# Altium footprint library Mylibr.PcbLib: 102 footprints (part 3 of 7)
Each footprint in its own frame and in the unit in brackets; x right, y up, seen from the top. Pads: shape width x height; smd on the part's side, far side on the other; paste and mask are expansions set on the pad; w line width, h text height; cw(c..) or ccw(c..) is an arc to the next point about the centre after c.
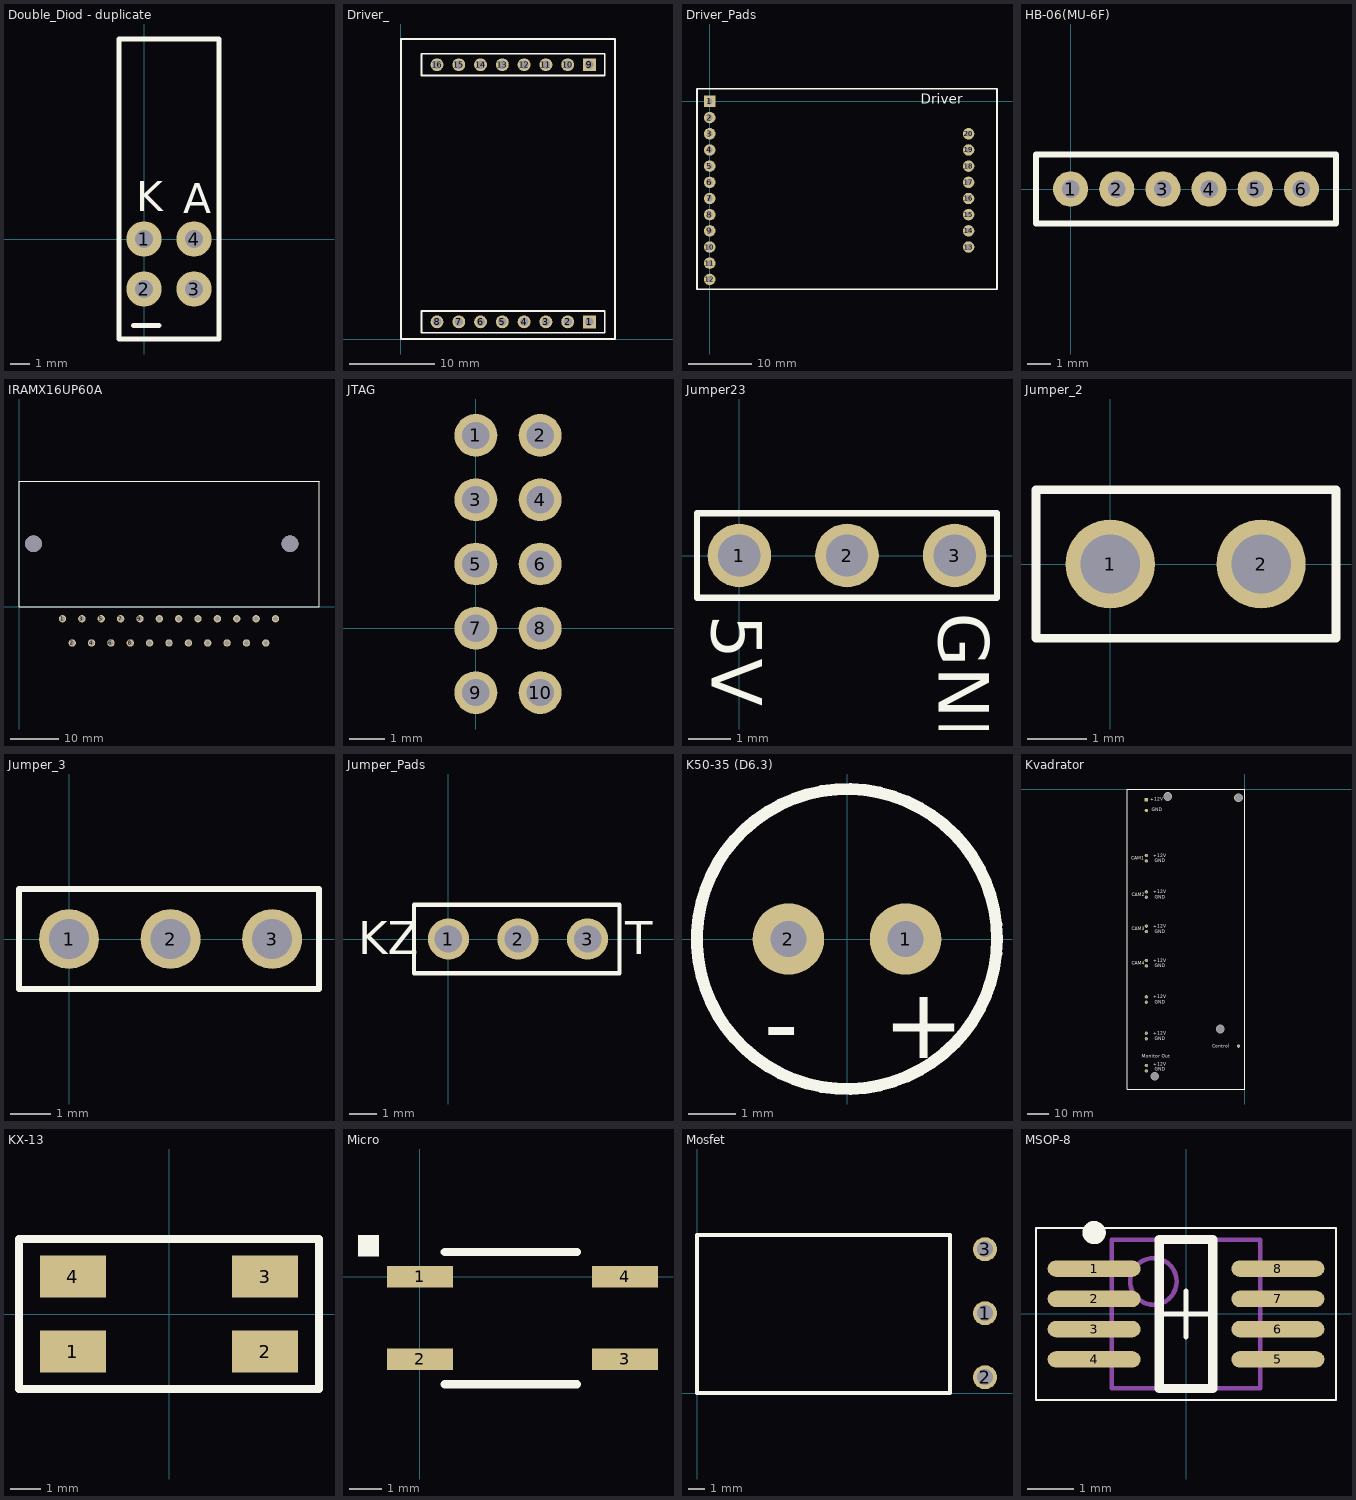
[diagram p2: the footprints below, top view; thin cyan lines are the x and y axes]

## Double_Diod - duplicate [mm]
pads (4):
  round 1.8 hole 0.9: 1(0,0) 2(0,-2.54) 3(2.54,-2.54) 4(2.54,0)
Top Overlay:
  lines w0.254: -0.54,-4.4 0.76,-4.4 ; -1.27,-5.08 -1.27,10.16 0,10.16 3.81,10.16 3.81,-5.08 -1.27,-5.08
  text "K" at -0.4,1.4 h1.52
  text "A" at 2,1.3 h1.52

## Driver_ [mm]
pads (16):
  rect 1.5x1.5 hole 1: 1(22,2) 9(22,32)
  round 1.5 hole 1: 2(19.46,2) 3(16.92,2) 4(14.38,2) 5(11.84,2) 6(9.3,2) 7(6.76,2) 8(4.22,2) 10(19.46,32) 11(16.92,32) 12(14.38,32) 13(11.84,32) 14(9.3,32) 15(6.76,32) 16(4.22,32)
Top Overlay:
  lines w0.2: 23.778,0.73 23.778,3.27 ; 23.778,30.73 23.778,33.27 ; 23.78,0.73 2.4,0.73 2.4,3.27 23.78,3.27 ; 23.78,30.73 2.4,30.73 2.4,33.27 23.78,33.27
  lines w0.254: 0,0 25,0 25,35 0,35 0,0

## Driver_Pads [mm]
pads (20):
  rect 1.8x1.8 hole 0.9: 1(0,0)
  round 1.8 hole 0.9: 2(0,-2.54) 3(0,-5.08) 4(0,-7.62) 5(0,-10.16) 6(0,-12.7) 7(0,-15.24) 8(0,-17.78) 9(0,-20.32) 10(0,-22.86) 11(0,-25.4) 12(0,-27.94) 13(40.64,-22.86) 14(40.64,-20.32) 15(40.64,-17.78) 16(40.64,-15.24) 17(40.64,-12.7) 18(40.64,-10.16) 19(40.64,-7.62) 20(40.64,-5.08)
Top Overlay:
  lines w0.254: 45,2 0,2 -2,2 -2,-29.5 45.1,-29.5 45.1,2
  text "Driver" at 33.1,-0.4 h1.52

## HB-06(MU-6F) [mil]
pads (6):
  round 60 hole 30: 1(0,0) 2(78.74,0) 3(157.48,0) 4(236.22,0) 5(314.96,0) 6(393.7,0)
Top Overlay:
  lines w10: -59.06,-59.06 -59.06,0 -59.06,59.06 452.76,59.06 452.76,-59.06 -59.06,-59.06

## IRAMX16UP60A [mm]
pads (23):
  round 1.524 hole 1: 1(9,-2.5) 2(11,-7.5) 3(13,-2.5) 4(15,-7.5) 5(17,-2.5) 6(19,-7.5) 7(21,-2.5) 8(23,-7.5) 9(25,-2.5) 10(27,-7.5) 11(29,-2.5) 12(31,-7.5) 13(33,-2.5) 14(35,-7.5) 15(37,-2.5) 16(39,-7.5) 17(41,-2.5) 18(43,-7.5) 19(45,-2.5) 20(47,-7.5) 21(49,-2.5) 22(51,-7.5) 23(53,-2.5)
via 3,13 diameter 3.5 hole 3.5
via 56,13 diameter 3.5 hole 3.5
Top Overlay:
  lines w0.254: 61.9,25.9 62,25.8 62,0 0,0 0,25.9 62,25.9

## JTAG [mm]
pads (10):
  round 1.2 hole 0.762: 1(0,5.4) 2(1.8,5.4) 3(0,3.6) 4(1.8,3.6) 5(0,1.8) 6(1.8,1.8) 7(0,0) 8(1.8,0) 9(0,-1.8) 10(1.8,-1.8)

## Jumper23 [mm] "Jumper for SYNC"
pads (3):
  round 1.5 hole 1: 1(0,0) 2(2.54,0) 3(5.08,0)
Top Overlay:
  lines w0.15: 1.83,-1 6.08,-1 ; 1.83,1 6.08,1 ; 3.25,-1 -1,-1 -1,1 3.25,1 ; 6.08,-1 6.08,1 ; 6.08,-1 6.08,1
  text "5V" at -0.65,-1.4 h1.2
  text "GND" at 4.7,-1.35 h1.2

## Jumper_2 [mm] "перемычка для плат"
pads (2):
  round 1.5 hole 1: 1(0,0) 2(2.54,0)
Top Overlay:
  lines w0.15: 3.775,-1.25 -1.25,-1.25 -1.25,1.25 3.775,1.25 ; 3.8,-1.25 3.8,1.25

## Jumper_3 [mm] "перемычка для плат"
pads (3):
  round 1.5 hole 1: 1(0,0) 2(2.54,0) 3(5.08,0)
Top Overlay:
  lines w0.15: -1.25,-1.25 -1.25,1.25 6.25,1.25 6.25,-1.25 -1.25,-1.25

## Jumper_Pads [mm] "перемычка для плат"
pads (3):
  round 1.5 hole 1: 1(0,0) 2(2.54,0) 3(5.08,0)
Top Overlay:
  lines w0.15: -1.25,-1.25 -1.25,1.25 6.25,1.25 6.25,-1.25 -1.25,-1.25
  text "KZ" at -3.3,-0.55 h1.2
  text "T" at 6.45,-0.55 h1.2

## K50-35 (D6.3) [mil]
height 433.07
pads (2):
  round 60 hole 30: 1(49.21,0) 2(-49.21,0)
Top Overlay:
  circle w10: c0,0 r125.98
  text "+" at 30,-100 h60
  text "-" at -70,-100 h60

## Kvadrator [mm]
pads (17):
  round 1.524 hole 1 square: 0(-46,-31) 2(-46,-48) 4(-46,-64) 6(-46,-80) 8(-46,-97) 10(-46,-114) 12(-46,-129)
  round 1.524 hole 1: 1(-46,-33.54) 3(-46,-50.54) 5(-46,-66.54) 7(-46,-82.54) 9(-46,-99.54) 11(-46,-116.54) 13(-46,-131.54)
  rect 1.524x1.524 smd: 14(-46,-5)
  round 1.524 smd: 15(-46,-10)
  round 1.524 hole 0.762: 16(-3,-120)
via -11.5,-112 diameter 4 hole 3.5
via -42,-134 diameter 4 hole 3.5
via -3,-4 diameter 4 hole 3.5
via -36,-3.5 diameter 4 hole 3.5
Top Overlay:
  lines w0.5: -55,-140 -55,0 0,0 0,-140 -55,-140
  text "Control" at -15.25,-120.75 h1.52
  text "Monitor Out" at -48.25,-125.5 h1.52
  text "CAM4" at -52.75,-82 h1.52
  text "CAM3" at -52.75,-66 h1.52
  text "CAM2" at -52.75,-50 h1.52
  text "CAM1" at -53,-33 h1.52
  text "+12V" at -44.25,-5.5 h1.52
  text "GND" at -43.5,-10.5 h1.52
  text "+12V" at -42.758,-31.75 h1.52
  text "GND" at -42,-34.25 h1.52
  text "GND" at -42,-51.25 h1.52
  text "+12V" at -42.758,-48.75 h1.52
  text "GND" at -42,-67.25 h1.52
  text "+12V" at -42.758,-64.75 h1.52
  text "GND" at -42,-83.25 h1.52
  text "+12V" at -42.758,-80.75 h1.52
  text "GND" at -42,-100.25 h1.52
  text "+12V" at -42.758,-97.75 h1.52
  text "GND" at -42,-117.25 h1.52
  text "+12V" at -42.758,-114.75 h1.52
  text "GND" at -42,-131.54 h1.52
  text "+12V" at -42.75,-129.25 h1.52
Bottom Overlay:
  lines w0.254: -55,-140 0,-140 0,0 -55,0 -55,-140
  text "Control" at -6.5,-121 h1.52
  text "CAM4" at -47.5,-82.25 h1.52
  text "CAM3" at -47.5,-66.25 h1.52
  text "CAM2" at -47.5,-50.25 h1.52
  text "CAM1" at -47.75,-33.25 h1.52
  text "+12V" at -36.5,-31 h1.52
  text "GND" at -37.25,-33.75 h1.52
  text "GND" at -37.5,-51.754 h1.52
  text "+12V" at -36.75,-48.754 h1.52
  text "GND" at -37.25,-67.25 h1.52
  text "+12V" at -36.5,-64.25 h1.52
  text "GND" at -37.5,-83.722 h1.52
  text "+12V" at -36.75,-80.722 h1.52
  text "GND" at -37.75,-100.25 h1.52
  text "+12V" at -37,-97.25 h1.52
  text "GND" at -37.5,-117.25 h1.52
  text "+12V" at -36.75,-114.25 h1.52
  text "GND" at -37.433,-132 h1.52
  text "+12V" at -36.683,-129 h1.52
  text "Monitor Out" at -34.25,-125.5 h1.52

## KX-13 [mm]
pads (4):
  rect 2.2x1.4 smd: 1(-3.2,-1.25) 2(3.2,-1.25) 3(3.2,1.25) 4(-3.2,1.25)
Top Overlay:
  lines w0.254: -5,-2.5 -5,2.5 5,2.5 5,-2.5 -5,-2.5

## Micro [mil]
pads (4):
  rect 80x26 smd: 1(0,0) 2(0,-100) 3(248.03,-100) 4(248.03,0)
Top Overlay:
  region: -75,25 -50,25 -50,50 -75,50
  lines w10: 30,-130 190,-130 ; 30,30 190,30
3D body: height 78.74, standoff -3.96, extent -19.68,-122.05 255.91,19.69

## Mosfet [mm]
pads (3):
  round 1.5 hole 1 unplated: 1(18,5) 2(18,1) 3(18,9)
Top Overlay:
  lines w0.254: 0,0 15.8,0 15.8,9.9 0,9.9 0,0

## MSOP-8 [mm]
height 1.1
pads (8):
  oval 2x0.35 smd: 1(-1.975,0.975) 2(-1.975,0.325) 3(-1.975,-0.325) 4(-1.975,-0.975) 5(1.975,-0.975) 6(1.975,-0.325) 7(1.975,0.325) 8(1.975,0.975)
Top Overlay:
  circle w0.25: c-1.975,1.75 r0.125
  lines w0.05: -3.225,-1.85 3.225,-1.85 3.225,1.85 -3.225,1.85 -3.225,-1.85
  lines w0.1: -0.5,0 0.5,0 ; 0,-0.5 0,0.5
  lines w0.2: -0.575,-1.6 0.575,-1.6 0.575,1.6 -0.575,1.6 -0.575,-1.6
Mechanical 13:
  circle w0.1: c-0.7,0.7 r0.5
  lines w0.1: -1.6,-1.6 1.6,-1.6 1.6,1.6 -1.6,1.6 -1.6,-1.6
3D body: height 1.1, standoff 0.15, extent -1.6,-1.6 1.6,1.6